# Altium footprint library R78C1510.PcbLib: 1 footprints
Each footprint in its own frame and in the unit in brackets; x right, y up, seen from the top. Pads: shape width x height; smd on the part's side, far side on the other; paste and mask are expansions set on the pad; w line width, h text height; cw(c..) or ccw(c..) is an arc to the next point about the centre after c.
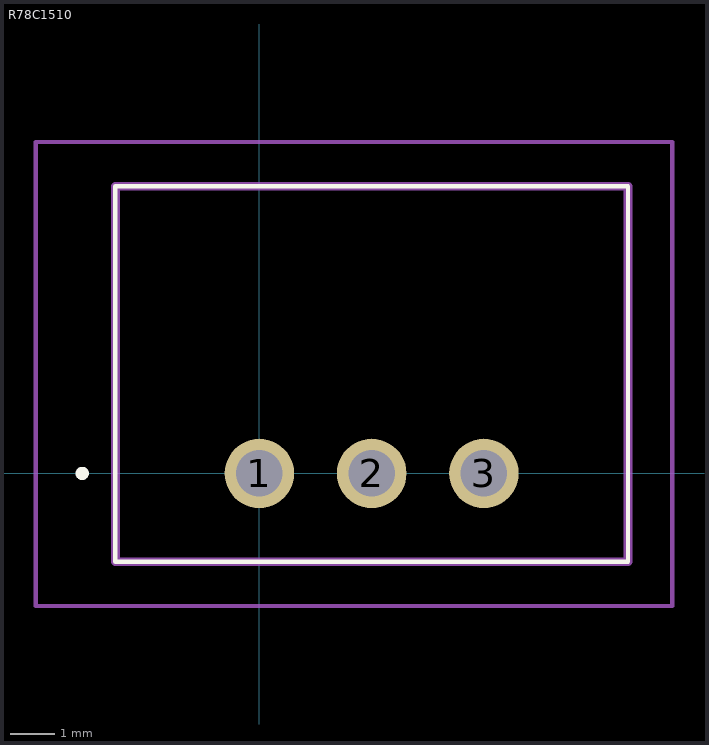
[diagram p0: the footprint, top view; thin cyan lines are the x and y axes]

## R78C1510 [mm]
pads (3):
  round 1.575 hole 1.05: 1(0,0) 2(2.54,0) 3(5.08,0)
Top Overlay:
  lines w0.1: -3.26,-2 8.34,-2 8.34,6.5 -3.26,6.5 -3.26,-2
  lines w0.2: -4.06,0 cw(c-4.01,0) -3.96,0 cw(c-4.01,0) -4.06,0
M5 Assembly Top:
  lines w0.2: -3.26,-2 -3.26,6.5 8.34,6.5 8.34,-2 -3.26,-2
  text ".Designator" at -2.667,3.556 h1.5
Mechanical 15:
  lines w0.1: -5.06,-3 9.34,-3 9.34,7.5 -5.06,7.5 -5.06,-3
3D body "R-78C15-1.0.stp": height 10.9, standoff -5, extent -3.26,-2 8.34,6.5